# EAGLE library part ATSAMD11D14A-MNT (library Clock)
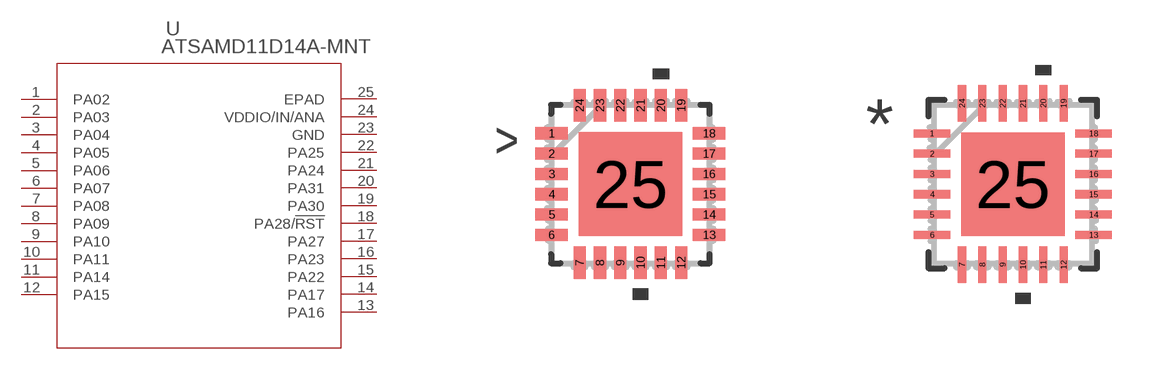
[diagram p0: symbol with the pads of QFN24_4X4MC; footprints QFN24_4X4MC, QFN24_4X4MC-M]

Designator prefix U

## ATSAMD11D14A-MNT (BUILT_BY: EMA_Molly; COPYRIGHT: Copyright (C) 2018 Accelerated Designs. All rights reserved; MANUFACTURER_PART_NUMBER: ATSAMD11D14A-MNT; VENDOR: Microchip)  [QFN24_4X4MC]
1  PA02
2  PA03
3  PA04
4  PA05
5  PA06
6  PA07
7  PA08
8  PA09
9  PA10
10  PA11
11  PA14
12  PA15
13  PA16
14  PA17
15  PA22
16  PA23
17  PA27
18  PA28/!RST
19  PA30
20  PA31
21  PA24
22  PA25
23  GND  pas
24  VDDIO/IN/ANA  pwr
25  EPAD  pas

## ATSAMD11D14A-MNTQFN24_4X4MC-M (BUILT_BY: EMA_Molly; COPYRIGHT: Copyright (C) 2018 Accelerated Designs. All rights reserved; MANUFACTURER_PART_NUMBER: ATSAMD11D14A-MNT; VENDOR: Microchip)  [QFN24_4X4MC-M]
Pads as for QFN24_4X4MC

## ATSAMD11D14A-MNTQFN24_4X4MC-L (BUILT_BY: EMA_Molly; COPYRIGHT: Copyright (C) 2018 Accelerated Designs. All rights reserved; MANUFACTURER_PART_NUMBER: ATSAMD11D14A-MNT; VENDOR: Microchip)  [QFN24_4X4MC-L]
Pads as for QFN24_4X4MC

## Footprint QFN24_4X4MC (pad centres in mm)
smd 0.813 x 0.305: 1 -1.968,1.27; 2 -1.968,0.762; 3 -1.968,0.254; 4 -1.968,-0.254; 5 -1.968,-0.762; 6 -1.968,-1.27; 13 1.968,-1.27; 14 1.968,-0.762; 15 1.968,-0.254; 16 1.968,0.254; 17 1.968,0.762; 18 1.968,1.27
smd 0.305 x 0.813: 7 -1.27,-1.968; 8 -0.762,-1.968; 9 -0.254,-1.968; 10 0.254,-1.968; 11 0.762,-1.968; 12 1.27,-1.968; 19 1.27,1.968; 20 0.762,1.968; 21 0.254,1.968; 22 -0.254,1.968; 23 -0.762,1.968; 24 -1.27,1.968
smd 2.591 x 2.591: 25 0,0

## Footprint QFN24_4X4MC-M (pad centres in mm)
smd 0.914 x 0.203: 1 -2.019,1.27; 2 -2.019,0.762; 3 -2.019,0.254; 4 -2.019,-0.254; 5 -2.019,-0.762; 6 -2.019,-1.27; 13 2.019,-1.27; 14 2.019,-0.762; 15 2.019,-0.254; 16 2.019,0.254; 17 2.019,0.762; 18 2.019,1.27
smd 0.203 x 0.914: 7 -1.27,-2.019; 8 -0.762,-2.019; 9 -0.254,-2.019; 10 0.254,-2.019; 11 0.762,-2.019; 12 1.27,-2.019; 19 1.27,2.019; 20 0.762,2.019; 21 0.254,2.019; 22 -0.254,2.019; 23 -0.762,2.019; 24 -1.27,2.019
smd 2.591 x 2.591: 25 0,0

## Footprint QFN24_4X4MC-L (pad centres in mm)
smd 0.711 x 0.203: 1 -1.918,1.27; 2 -1.918,0.762; 3 -1.918,0.254; 4 -1.918,-0.254; 5 -1.918,-0.762; 6 -1.918,-1.27; 13 1.918,-1.27; 14 1.918,-0.762; 15 1.918,-0.254; 16 1.918,0.254; 17 1.918,0.762; 18 1.918,1.27
smd 0.203 x 0.711: 7 -1.27,-1.918; 8 -0.762,-1.918; 9 -0.254,-1.918; 10 0.254,-1.918; 11 0.762,-1.918; 12 1.27,-1.918; 19 1.27,1.918; 20 0.762,1.918; 21 0.254,1.918; 22 -0.254,1.918; 23 -0.762,1.918; 24 -1.27,1.918
smd 2.591 x 2.591: 25 0,0